# Altium schematic symbol library MIC5205.SchLib: 1 symbol
Pins are listed as number, name and electrical type; pins without a type are passive.

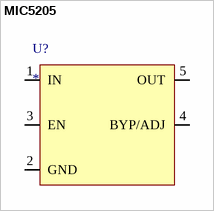
[diagram p0: symbol MIC5205]

## MIC5205
designator U?
pins: 1 IN, 2 GND, 3 EN, 4 BYP/ADJ, 5 OUT